# EAGLE library part C8051F320 (library silabs-2)
Full Speed USB, 16k ISP FLASH MCU
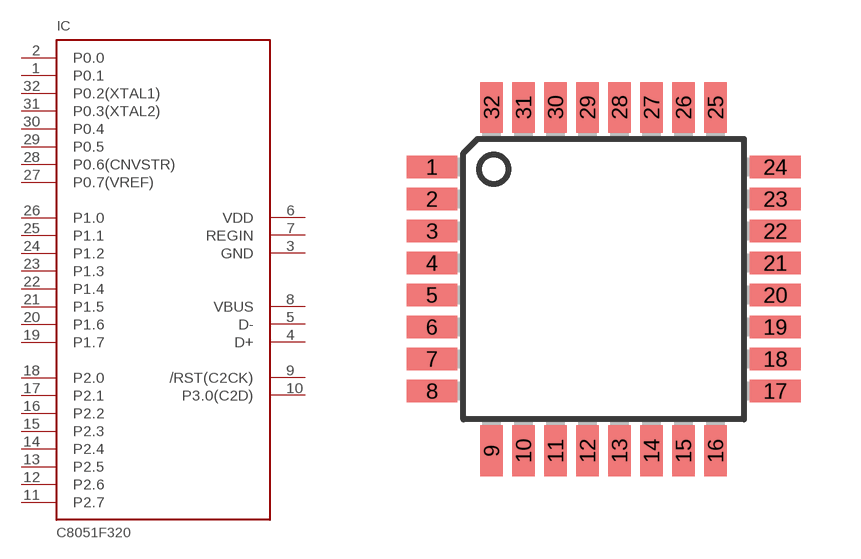
[diagram p5: symbol with the pads of TQFP32-08; footprint TQFP32-08]

Designator prefix IC

## C8051F320  [TQFP32-08]
1  P0.1
2  P0.0
3  GND  pwr
4  D+
5  D-
6  VDD  pwr
7  REGIN  pwr
8  VBUS  pwr
9  /RST(C2CK)
10  P3.0(C2D)
11  P2.7
12  P2.6
13  P2.5
14  P2.4
15  P2.3
16  P2.2
17  P2.1
18  P2.0
19  P1.7
20  P1.6
21  P1.5
22  P1.4
23  P1.3
24  P1.2
25  P1.1
26  P1.0
27  P0.7(VREF)
28  P0.6(CNVSTR)
29  P0.5
30  P0.4
31  P0.3(XTAL2)
32  P0.2(XTAL1)

## Footprint TQFP32-08 (pad centres in mm)
Thin Plasic Quad Flat Package Grid 0.8 mm
smd 1.27 x 0.559: 1 -4.293,2.8; 2 -4.293,2; 3 -4.293,1.2; 4 -4.293,0.4; 5 -4.293,-0.4; 6 -4.293,-1.2; 7 -4.293,-2; 8 -4.293,-2.8; 17 4.293,-2.8; 18 4.293,-2; 19 4.293,-1.2; 20 4.293,-0.4; 21 4.293,0.4; 22 4.293,1.2; 23 4.293,2; 24 4.293,2.8
smd 0.559 x 1.27: 9 -2.8,-4.293; 10 -2,-4.293; 11 -1.2,-4.293; 12 -0.4,-4.293; 13 0.4,-4.293; 14 1.2,-4.293; 15 2,-4.293; 16 2.8,-4.293; 25 2.8,4.293; 26 2,4.293; 27 1.2,4.293; 28 0.4,4.293; 29 -0.4,4.293; 30 -1.2,4.293; 31 -2,4.293; 32 -2.8,4.293